# Altium footprint library lib_cnk.PcbLib: 1 footprints
Each footprint in its own frame and in the unit in brackets; x right, y up, seen from the top. Pads: shape width x height; smd on the part's side, far side on the other; paste and mask are expansions set on the pad; w line width, h text height; cw(c..) or ccw(c..) is an arc to the next point about the centre after c.
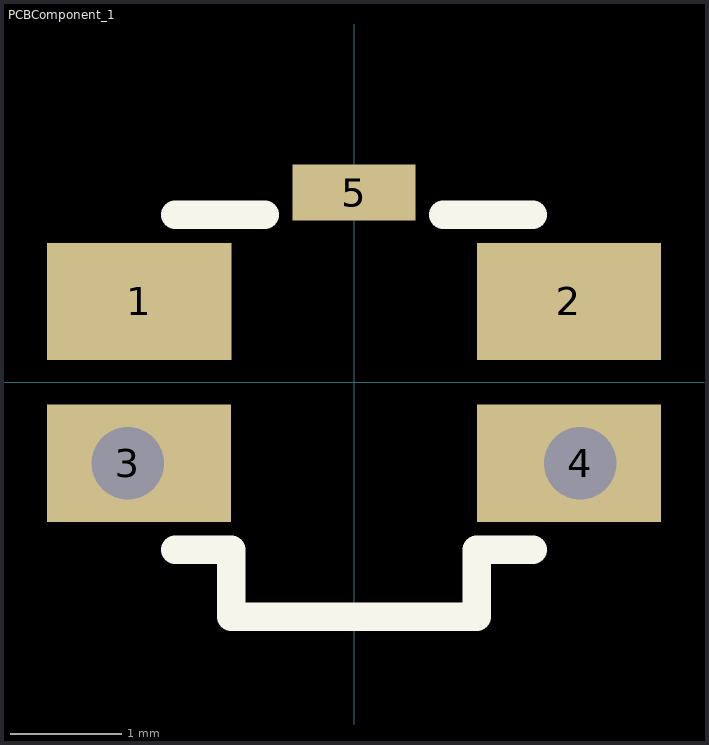
[diagram p0: the footprint, top view; thin cyan lines are the x and y axes]

## PCBComponent_1 [mm]
pads (5):
  rect 1.65x1.05 smd: 1(-1.924,0.725) 2(1.925,0.725)
  rect 1.65x1.05 / inner rect 1.65x1.05 / far side round 0 hole 0.65 copper offset 0.1,0: 3(-2.025,-0.725)
  rect 1.65x1.05 / inner rect 1.65x1.05 / far side round 0 hole 0.65 copper offset -0.1,0: 4(2.025,-0.725)
  rect 1.1x0.5 smd: 5(0,1.7)
Top Overlay:
  lines w0.254: -1.6,-1.5 -1.1,-1.5 -1.1,-2.1 1.1,-2.1 1.1,-1.5 1.6,-1.5 ; -1.6,1.5 -0.8,1.5 ; 0.8,1.5 1.6,1.5
3D body "PTS840ESDPKSMTRLFS.stp": height 1.4, standoff -0.55, extent -2.35,-2.1 2.35,1.65